# EAGLE library part HDR-1X14 (library con-hdrs40)
HEADER CONNECTOR
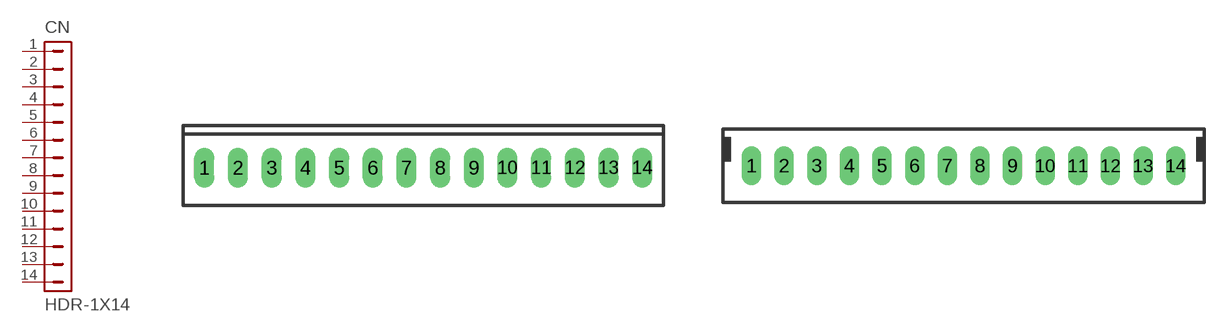
[diagram p8: symbol with the pads of MTA-100-14V; footprints MTA-100-14V, MTE-100-14V]

Designator prefix CN

## HDR-1X14-MTA-100  [MTA-100-14V]
1  1  pas
2  2  pas
3  3  pas
4  4  pas
5  5  pas
6  6  pas
7  7  pas
8  8  pas
9  9  pas
10  10  pas
11  11  pas
12  12  pas
13  13  pas
14  14  pas

## HDR-1X14-MTE-100  [MTE-100-14V]
Pads as for MTA-100-14V

## HDR-1X14-MTE-100-L  [MTE-100-14VL]
Pads as for MTA-100-14V

## HDR-1X14-SIP-100  [SIP-100-14V]
Pads as for MTA-100-14V

## HDR-1X14-15-91-?  [15-91-14]
Pads as for MTA-100-14V

## HDR-1X14-70543-?  [70543-14]
Pads as for MTA-100-14V

## HDR-1X14-70553-?  [70553-14]
Pads as for MTA-100-14V

## HDR-1X14-FH21-14  [FH21-14]
Pads as for MTA-100-14V

## Footprint MTA-100-14V (pad centres in mm)
AMP MTA Vertical .100" 14 pin
drill 1.016 long: 1 -16.51,0; 2 -13.97,0; 3 -11.43,0; 4 -8.89,0; 5 -6.35,0; 6 -3.81,0; 7 -1.27,0; 8 1.27,0; 9 3.81,0; 10 6.35,0; 11 8.89,0; 12 11.43,0; 13 13.97,0; 14 16.51,0

## Footprint MTE-100-14V (pad centres in mm)
AMP MTE Vertical .100" 14 pin
drill 1.016 long: 1 -16.51,0; 2 -13.97,0; 3 -11.43,0; 4 -8.89,0; 5 -6.35,0; 6 -3.81,0; 7 -1.27,0; 8 1.27,0; 9 3.81,0; 10 6.35,0; 11 8.89,0; 12 11.43,0; 13 13.97,0; 14 16.51,0

## Footprint MTE-100-14VL (pad centres in mm)
AMP MTE Vertical .100" 14 pin w/latch
drill 1.016 long: 1 -16.51,0; 2 -13.97,0; 3 -11.43,0; 4 -8.89,0; 5 -6.35,0; 6 -3.81,0; 7 -1.27,0; 8 1.27,0; 9 3.81,0; 10 6.35,0; 11 8.89,0; 12 11.43,0; 13 13.97,0; 14 16.51,0

## Footprint SIP-100-14V (pad centres in mm)
SIP Header Vertical 100" 14 pin
drill 1.016 long: 1 -16.51,0; 2 -13.97,0; 3 -11.43,0; 4 -8.89,0; 5 -6.35,0; 6 -3.81,0; 7 -1.27,0; 8 1.27,0; 9 3.81,0; 10 6.35,0; 11 8.89,0; 12 11.43,0; 13 13.97,0; 14 16.51,0

## Footprint 15-91-14 (pad centres in mm)
Molex C-Grid SL Connector right angle SMD, 14 pin
smd 1.651 x 5.334: 1 -16.51,-10.795; 2 -13.97,-10.795; 3 -11.43,-10.795; 4 -8.89,-10.795; 5 -6.35,-10.795; 6 -3.81,-10.795; 7 -1.27,-10.795; 8 1.27,-10.795; 9 3.81,-10.795; 10 6.35,-10.795; 11 8.89,-10.795; 12 11.43,-10.795; 13 13.97,-10.795; 14 16.51,-10.795
hole 3.404 at -17.907,0.838
hole 3.404 at 17.907,0.838

## Footprint 70543-14 (pad centres in mm)
Molex C-Grid SL Connector vertical, 14 pin
drill 1.016 long: 1 -16.51,0; 2 -13.97,0; 3 -11.43,0; 4 -8.89,0; 5 -6.35,0; 6 -3.81,0; 7 -1.27,0; 8 1.27,0; 9 3.81,0; 10 6.35,0; 11 8.89,0; 12 11.43,0; 13 13.97,0; 14 16.51,0

## Footprint 70553-14 (pad centres in mm)
Molex C-Grid SL Connector right angle, 14 pin
drill 1.092 long: 1 -16.51,-7.62; 2 -13.97,-7.62; 3 -11.43,-7.62; 4 -8.89,-7.62; 5 -6.35,-7.62; 6 -3.81,-7.62; 7 -1.27,-7.62; 8 1.27,-7.62; 9 3.81,-7.62; 10 6.35,-7.62; 11 8.89,-7.62; 12 11.43,-7.62; 13 13.97,-7.62; 14 16.51,-7.62

## Footprint FH21-14 (pad centres in mm)
Hirose FH21 1 MM Flex Connector right angle, 14 pin,
drill 0.813 square: 1 -6.5,-1
drill 0.813 round: 2 -5.5,1; 3 -4.5,-1; 4 -3.5,1; 5 -2.5,-1; 6 -1.5,1; 7 -0.5,-1; 8 0.5,1; 9 1.5,-1; 10 2.5,1; 11 3.5,-1; 12 4.5,1; 13 5.5,-1; 14 6.5,1